# Altium schematic symbol library SPI_FLASH.SchLib: 1 symbol
Pins are listed as number, name and electrical type; pins without a type are passive.

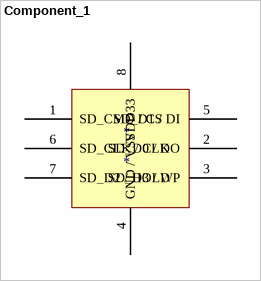
[diagram p0: symbol Component_1]

## Component_1
designator *
footprint MCHP-SOIC-S2A8_L (SOIC, 8-Leads, Body 5.275x5.275mm, Pitch 1.27mm, IPC High Density)
pins: 1 SD_CMD / CS, 2 SD_D0 / DO, 3 SD_D3 / WP, 4 GND / VSS, 5 SD_D1 / DI, 6 SD_CLK / CLK, 7 SD_D2 / HOLD, 8 VDD33